# EAGLE library part IMS-C100 (library Transputers)
C100 peripheral INMOS C100 system protocol converter. Source: The T9000 Transputer Hardware Reference Manual INMOS/SGS-Thomson Arto Kyyhkynen, artoky@dlc.fi
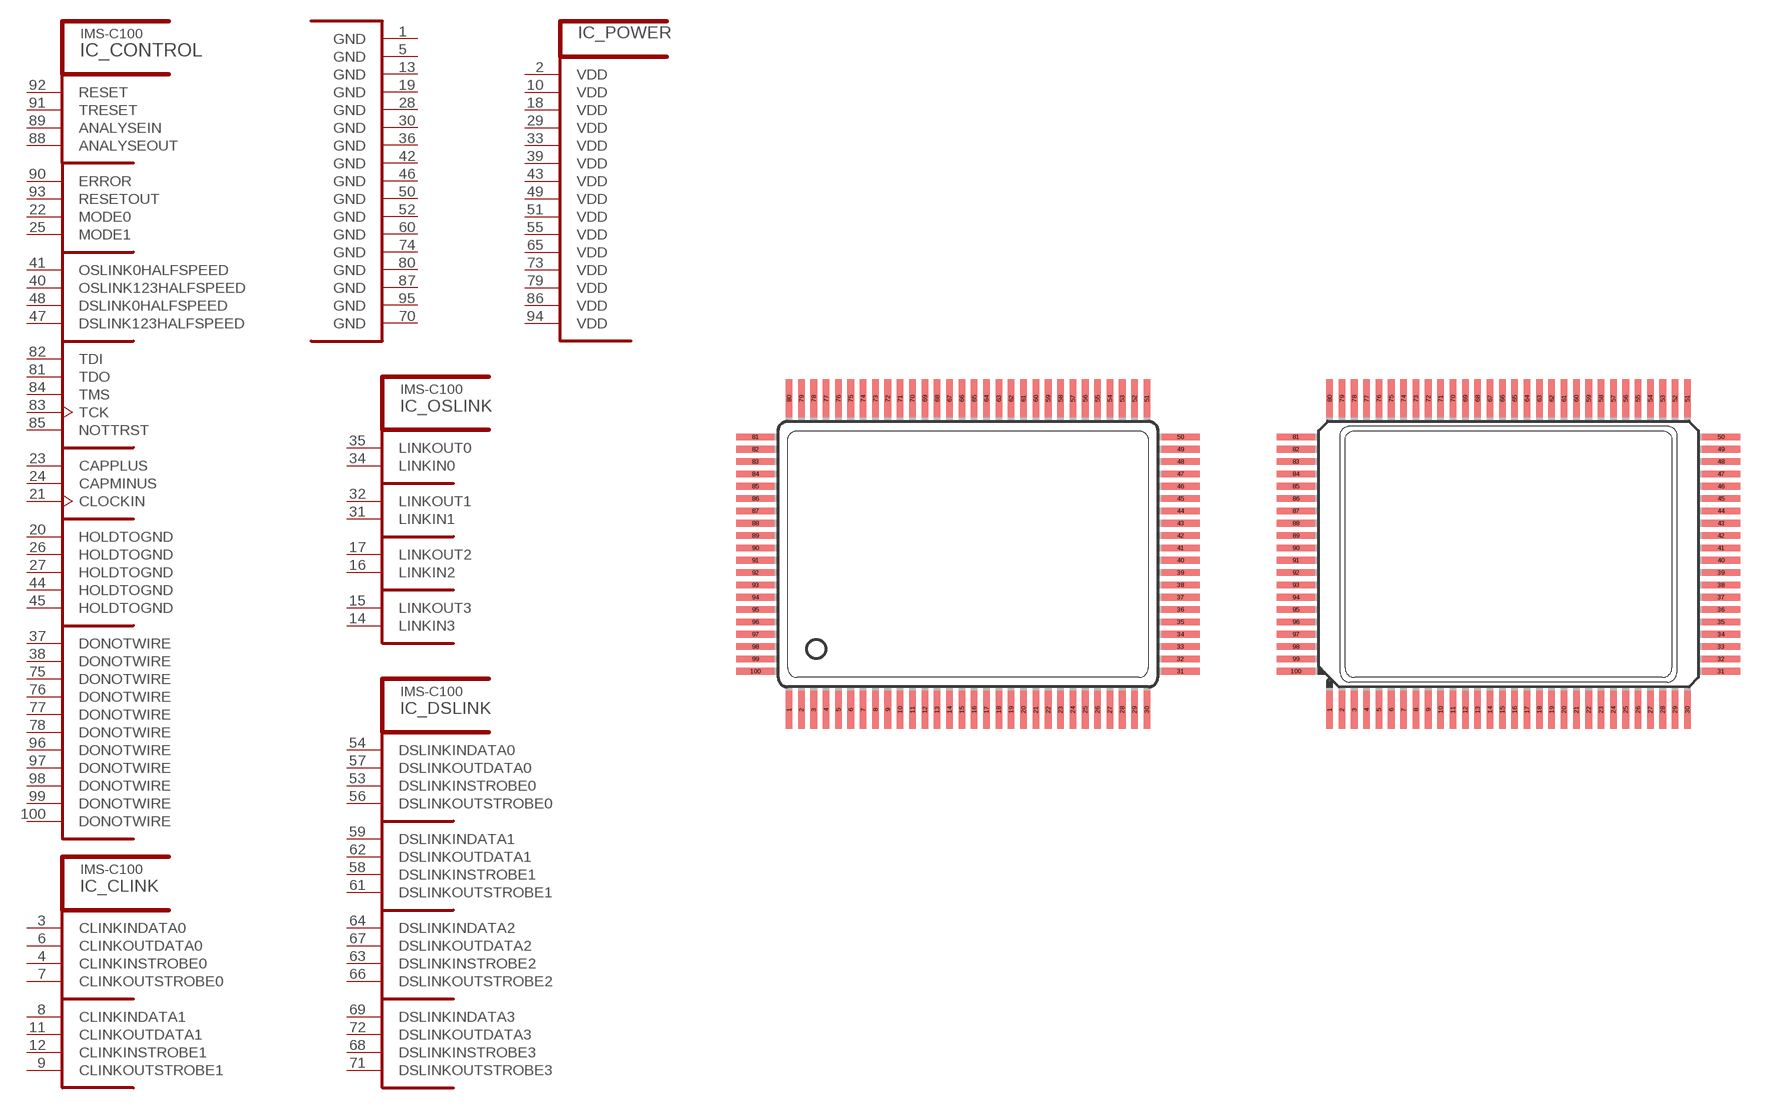
[diagram p7: symbol with the pads of PQFP100; footprints PQFP100, CQFP100]

Designator prefix IC; gates _CLINK=C100_CLINK _CONTROL=C100_CONTROL _DSLINK=C100_DSLINK _OSLINK=C100_OSLINK _POWER=C100_SUP

## IMS-C100S10X  [PQFP100]
1  _POWER:GND  pwr
2  _POWER:VDD  pwr
3  _CLINK:CLINKINDATA0  in
4  _CLINK:CLINKINSTROBE0  in
5  _POWER:GND  pwr
6  _CLINK:CLINKOUTDATA0  out
7  _CLINK:CLINKOUTSTROBE0  out
8  _CLINK:CLINKINDATA1  in
9  _CLINK:CLINKOUTSTROBE1  out
10  _POWER:VDD  pwr
11  _CLINK:CLINKOUTDATA1  out
12  _CLINK:CLINKINSTROBE1  in
13  _POWER:GND  pwr
14  _OSLINK:LINKIN3  in
15  _OSLINK:LINKOUT3  out
16  _OSLINK:LINKIN2  in
17  _OSLINK:LINKOUT2  out
18  _POWER:VDD  pwr
19  _POWER:GND  pwr
20  _CONTROL:HOLDTOGND  pas
21  _CONTROL:CLOCKIN  in
22  _CONTROL:MODE0  in
23  _CONTROL:CAPPLUS  pas
24  _CONTROL:CAPMINUS  pas
25  _CONTROL:MODE1  in
26  _CONTROL:HOLDTOGND  pas
27  _CONTROL:HOLDTOGND  pas
28  _POWER:GND  pwr
29  _POWER:VDD  pwr
30  _POWER:GND  pwr
31  _OSLINK:LINKIN1  in
32  _OSLINK:LINKOUT1  out
33  _POWER:VDD  pwr
34  _OSLINK:LINKIN0  in
35  _OSLINK:LINKOUT0  out
36  _POWER:GND  pwr
37  _CONTROL:DONOTWIRE  nc
38  _CONTROL:DONOTWIRE  nc
39  _POWER:VDD  pwr
40  _CONTROL:OSLINK123HALFSPEED  in
41  _CONTROL:OSLINK0HALFSPEED  in
42  _POWER:GND  pwr
43  _POWER:VDD  pwr
44  _CONTROL:HOLDTOGND  pas
45  _CONTROL:HOLDTOGND  pas
46  _POWER:GND  pwr
47  _CONTROL:DSLINK123HALFSPEED  in
48  _CONTROL:DSLINK0HALFSPEED  in
49  _POWER:VDD  pwr
50  _POWER:GND  pwr
51  _POWER:VDD  pwr
52  _POWER:GND  pwr
53  _DSLINK:DSLINKINSTROBE0  in
54  _DSLINK:DSLINKINDATA0  in
55  _POWER:VDD  pwr
56  _DSLINK:DSLINKOUTSTROBE0  out
57  _DSLINK:DSLINKOUTDATA0  out
58  _DSLINK:DSLINKINSTROBE1  in
59  _DSLINK:DSLINKINDATA1  in
60  _POWER:GND  pwr
61  _DSLINK:DSLINKOUTSTROBE1  out
62  _DSLINK:DSLINKOUTDATA1  out
63  _DSLINK:DSLINKINSTROBE2  in
64  _DSLINK:DSLINKINDATA2  in
65  _POWER:VDD  pwr
66  _DSLINK:DSLINKOUTSTROBE2  out
67  _DSLINK:DSLINKOUTDATA2  out
68  _DSLINK:DSLINKINSTROBE3  in
69  _DSLINK:DSLINKINDATA3  in
70  _POWER:GND  pwr
71  _DSLINK:DSLINKOUTSTROBE3  out
72  _DSLINK:DSLINKOUTDATA3  out
73  _POWER:VDD  pwr
74  _POWER:GND  pwr
75  _CONTROL:DONOTWIRE  nc
76  _CONTROL:DONOTWIRE  nc
77  _CONTROL:DONOTWIRE  nc
78  _CONTROL:DONOTWIRE  nc
79  _POWER:VDD  pwr
80  _POWER:GND  pwr
81  _CONTROL:TDO  out
82  _CONTROL:TDI  in
83  _CONTROL:TCK  in
84  _CONTROL:TMS  in
85  _CONTROL:NOTTRST  in
86  _POWER:VDD  pwr
87  _POWER:GND  pwr
88  _CONTROL:ANALYSEOUT  out
89  _CONTROL:ANALYSEIN  in
90  _CONTROL:ERROR  in
91  _CONTROL:TRESET  in
92  _CONTROL:RESET  in
93  _CONTROL:RESETOUT  out
94  _POWER:VDD  pwr
95  _POWER:GND  pwr
96  _CONTROL:DONOTWIRE  nc
97  _CONTROL:DONOTWIRE  nc
98  _CONTROL:DONOTWIRE  nc
99  _CONTROL:DONOTWIRE  nc
100  _CONTROL:DONOTWIRE  nc

## IMS-C100S10F  [CQFP100]
1  _POWER:GND  pwr
2  _POWER:VDD  pwr
3  _CLINK:CLINKINDATA0  in
4  _CLINK:CLINKINSTROBE0  in
5  _POWER:GND  pwr
6  _CLINK:CLINKOUTDATA0  out
7  _CLINK:CLINKOUTSTROBE0  out
8  _CLINK:CLINKINDATA1  in
9  _CLINK:CLINKINSTROBE1  in
10  _POWER:VDD  pwr
11  _CLINK:CLINKOUTDATA1  out
12  _CLINK:CLINKOUTSTROBE1  out
13  _POWER:GND  pwr
14  _OSLINK:LINKIN3  in
15  _OSLINK:LINKOUT3  out
16  _OSLINK:LINKIN2  in
17  _OSLINK:LINKOUT2  out
18  _POWER:VDD  pwr
19  _POWER:GND  pwr
20  _CONTROL:HOLDTOGND  pas
21  _CONTROL:CLOCKIN  in
22  _CONTROL:MODE0  in
23  _CONTROL:CAPPLUS  pas
24  _CONTROL:CAPMINUS  pas
25  _CONTROL:MODE1  in
26  _CONTROL:HOLDTOGND  pas
27  _CONTROL:HOLDTOGND  pas
28  _POWER:GND  pwr
29  _POWER:VDD  pwr
30  _POWER:GND  pwr
31  _OSLINK:LINKIN1  in
32  _OSLINK:LINKOUT1  out
33  _POWER:VDD  pwr
34  _OSLINK:LINKIN0  in
35  _OSLINK:LINKOUT0  out
36  _POWER:GND  pwr
37  _CONTROL:DONOTWIRE  nc
38  _CONTROL:DONOTWIRE  nc
39  _POWER:VDD  pwr
40  _CONTROL:OSLINK123HALFSPEED  in
41  _CONTROL:OSLINK0HALFSPEED  in
42  _POWER:GND  pwr
43  _POWER:VDD  pwr
44  _CONTROL:HOLDTOGND  pas
45  _CONTROL:HOLDTOGND  pas
46  _POWER:GND  pwr
47  _CONTROL:DSLINK123HALFSPEED  in
48  _CONTROL:DSLINK0HALFSPEED  in
49  _POWER:VDD  pwr
50  _POWER:GND  pwr
51  _POWER:VDD  pwr
52  _POWER:GND  pwr
53  _DSLINK:DSLINKINSTROBE0  in
54  _DSLINK:DSLINKINDATA0  in
55  _POWER:VDD  pwr
56  _DSLINK:DSLINKOUTSTROBE0  out
57  _DSLINK:DSLINKOUTDATA0  out
58  _DSLINK:DSLINKINSTROBE1  in
59  _DSLINK:DSLINKINDATA1  in
60  _POWER:GND  pwr
61  _DSLINK:DSLINKOUTSTROBE1  out
62  _DSLINK:DSLINKOUTDATA1  out
63  _DSLINK:DSLINKINSTROBE2  in
64  _DSLINK:DSLINKINDATA2  in
65  _POWER:VDD  pwr
66  _DSLINK:DSLINKOUTSTROBE2  out
67  _DSLINK:DSLINKOUTDATA2  out
68  _DSLINK:DSLINKINSTROBE3  in
69  _DSLINK:DSLINKINDATA3  in
70  _POWER:GND  pwr
71  _DSLINK:DSLINKOUTSTROBE3  out
72  _DSLINK:DSLINKOUTDATA3  out
73  _POWER:VDD  pwr
74  _POWER:GND  pwr
75  _CONTROL:DONOTWIRE  nc
76  _CONTROL:DONOTWIRE  nc
77  _CONTROL:DONOTWIRE  nc
78  _CONTROL:DONOTWIRE  nc
79  _POWER:VDD  pwr
80  _POWER:GND  pwr
81  _CONTROL:TDO  out
82  _CONTROL:TDI  in
83  _CONTROL:TCK  in
84  _CONTROL:TMS  in
85  _CONTROL:NOTTRST  in
86  _POWER:VDD  pwr
87  _POWER:GND  pwr
88  _CONTROL:ANALYSEOUT  out
89  _CONTROL:ANALYSEIN  in
90  _CONTROL:ERROR  in
91  _CONTROL:TRESET  in
92  _CONTROL:RESET  in
93  _CONTROL:RESETOUT  out
94  _POWER:VDD  pwr
95  _POWER:GND  pwr
96  _CONTROL:DONOTWIRE  nc
97  _CONTROL:DONOTWIRE  nc
98  _CONTROL:DONOTWIRE  nc
99  _CONTROL:DONOTWIRE  nc
100  _CONTROL:DONOTWIRE  nc

## Footprint PQFP100 (pad centres in mm)
Plastic Quad Flat Pack INMOS/ST-Microelectronics
smd 0.35 x 2: 1 -9.425,-8.2; 2 -8.775,-8.2; 3 -8.125,-8.2; 4 -7.475,-8.2; 5 -6.825,-8.2; 6 -6.175,-8.2; 7 -5.525,-8.2; 8 -4.875,-8.2; 9 -4.225,-8.2; 10 -3.575,-8.2; 11 -2.925,-8.2; 12 -2.275,-8.2; 13 -1.625,-8.2; 14 -0.975,-8.2; 15 -0.325,-8.2; 16 0.325,-8.2; 17 0.975,-8.2; 18 1.625,-8.2; 19 2.275,-8.2; 20 2.925,-8.2; 21 3.575,-8.2; 22 4.225,-8.2; 23 4.875,-8.2; 24 5.525,-8.2; 25 6.175,-8.2; 26 6.825,-8.2; 27 7.475,-8.2; 28 8.125,-8.2; 29 8.775,-8.2; 30 9.425,-8.2; 51 9.425,8.2; 52 8.775,8.2; 53 8.125,8.2; 54 7.475,8.2; 55 6.825,8.2; 56 6.175,8.2; 57 5.525,8.2; 58 4.875,8.2; 59 4.225,8.2; 60 3.575,8.2; 61 2.925,8.2; 62 2.275,8.2; 63 1.625,8.2; 64 0.975,8.2; 65 0.325,8.2; 66 -0.325,8.2; 67 -0.975,8.2; 68 -1.625,8.2; 69 -2.275,8.2; 70 -2.925,8.2; 71 -3.575,8.2; 72 -4.225,8.2; 73 -4.875,8.2; 74 -5.525,8.2; 75 -6.175,8.2; 76 -6.825,8.2; 77 -7.475,8.2; 78 -8.125,8.2; 79 -8.775,8.2; 80 -9.425,8.2
smd 2 x 0.35: 31 11.2,-6.175; 32 11.2,-5.525; 33 11.2,-4.875; 34 11.2,-4.225; 35 11.2,-3.575; 36 11.2,-2.925; 37 11.2,-2.275; 38 11.2,-1.625; 39 11.2,-0.975; 40 11.2,-0.325; 41 11.2,0.325; 42 11.2,0.975; 43 11.2,1.625; 44 11.2,2.275; 45 11.2,2.925; 46 11.2,3.575; 47 11.2,4.225; 48 11.2,4.875; 49 11.2,5.525; 50 11.2,6.175; 81 -11.2,6.175; 82 -11.2,5.525; 83 -11.2,4.875; 84 -11.2,4.225; 85 -11.2,3.575; 86 -11.2,2.925; 87 -11.2,2.275; 88 -11.2,1.625; 89 -11.2,0.975; 90 -11.2,0.325; 91 -11.2,-0.325; 92 -11.2,-0.975; 93 -11.2,-1.625; 94 -11.2,-2.275; 95 -11.2,-2.925; 96 -11.2,-3.575; 97 -11.2,-4.225; 98 -11.2,-4.875; 99 -11.2,-5.525; 100 -11.2,-6.175

## Footprint CQFP100 (pad centres in mm)
Cavity up Ceramic Quad Flat Pack INMOS/ST-Microelectronics
smd 0.35 x 2: 1 -9.425,-8.2; 2 -8.775,-8.2; 3 -8.125,-8.2; 4 -7.475,-8.2; 5 -6.825,-8.2; 6 -6.175,-8.2; 7 -5.525,-8.2; 8 -4.875,-8.2; 9 -4.225,-8.2; 10 -3.575,-8.2; 11 -2.925,-8.2; 12 -2.275,-8.2; 13 -1.625,-8.2; 14 -0.975,-8.2; 15 -0.325,-8.2; 16 0.325,-8.2; 17 0.975,-8.2; 18 1.625,-8.2; 19 2.275,-8.2; 20 2.925,-8.2; 21 3.575,-8.2; 22 4.225,-8.2; 23 4.875,-8.2; 24 5.525,-8.2; 25 6.175,-8.2; 26 6.825,-8.2; 27 7.475,-8.2; 28 8.125,-8.2; 29 8.775,-8.2; 30 9.425,-8.2; 51 9.425,8.2; 52 8.775,8.2; 53 8.125,8.2; 54 7.475,8.2; 55 6.825,8.2; 56 6.175,8.2; 57 5.525,8.2; 58 4.875,8.2; 59 4.225,8.2; 60 3.575,8.2; 61 2.925,8.2; 62 2.275,8.2; 63 1.625,8.2; 64 0.975,8.2; 65 0.325,8.2; 66 -0.325,8.2; 67 -0.975,8.2; 68 -1.625,8.2; 69 -2.275,8.2; 70 -2.925,8.2; 71 -3.575,8.2; 72 -4.225,8.2; 73 -4.875,8.2; 74 -5.525,8.2; 75 -6.175,8.2; 76 -6.825,8.2; 77 -7.475,8.2; 78 -8.125,8.2; 79 -8.775,8.2; 80 -9.425,8.2
smd 2 x 0.35: 31 11.2,-6.175; 32 11.2,-5.525; 33 11.2,-4.875; 34 11.2,-4.225; 35 11.2,-3.575; 36 11.2,-2.925; 37 11.2,-2.275; 38 11.2,-1.625; 39 11.2,-0.975; 40 11.2,-0.325; 41 11.2,0.325; 42 11.2,0.975; 43 11.2,1.625; 44 11.2,2.275; 45 11.2,2.925; 46 11.2,3.575; 47 11.2,4.225; 48 11.2,4.875; 49 11.2,5.525; 50 11.2,6.175; 81 -11.2,6.175; 82 -11.2,5.525; 83 -11.2,4.875; 84 -11.2,4.225; 85 -11.2,3.575; 86 -11.2,2.925; 87 -11.2,2.275; 88 -11.2,1.625; 89 -11.2,0.975; 90 -11.2,0.325; 91 -11.2,-0.325; 92 -11.2,-0.975; 93 -11.2,-1.625; 94 -11.2,-2.275; 95 -11.2,-2.925; 96 -11.2,-3.575; 97 -11.2,-4.225; 98 -11.2,-4.875; 99 -11.2,-5.525; 100 -11.2,-6.175